# EAGLE library part ADG1534BCPZ-REEL7 (library ADG1534BCPZ-REEL7)
4.5 RON, 1.8 V Logic-Compatible Quad SPDT Switch Source: Datasheet <https://www.analog.com/ADG1534/datasheet>
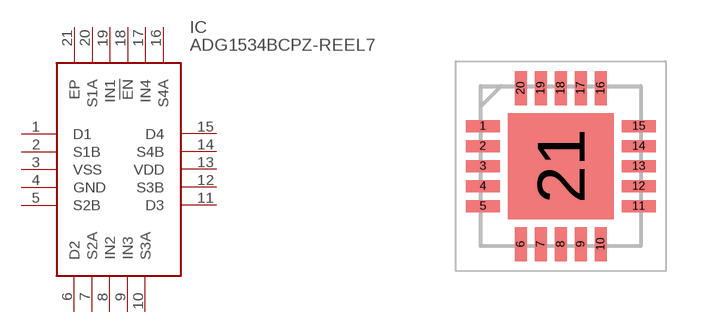
[diagram p0: symbol with the pads of QFN50P400X400X80-21N; footprint QFN50P400X400X80-21N]

Designator prefix IC

## ADG1534BCPZ-REEL7 (Description: 4.5 RON, 1.8 V Logic-Compatible Quad SPDT Switch; Height: 0.8mm; Manufacturer_Name: Analog Devices; Manufacturer_Part_Number: ADG1534BCPZ-REEL7; Mouser_Part_Number: 584-ADG1534BCPZREEL7; Mouser_Price-Stock: https://www.mouser.co.uk/ProductDetail/Analog-Devices/ADG1534BCPZ-REEL7?qs=ST9lo4GX8V0qjQZb0F%2FOag%3D%3D)  [QFN50P400X400X80-21N]
1  D1
2  S1B
3  VSS
4  GND
5  S2B
6  D2
7  S2A
8  IN2
9  IN3
10  S3A
11  D3
12  S3B
13  VDD
14  S4B
15  D4
16  S4A
17  IN4
18  !EN
19  IN1
20  S1A
21  EP

## Footprint QFN50P400X400X80-21N (pad centres in mm)
ADG1534BCPZ-REEL7
smd 0.85 x 0.3: 1 -1.95,1; 2 -1.95,0.5; 3 -1.95,0; 4 -1.95,-0.5; 5 -1.95,-1; 11 1.95,-1; 12 1.95,-0.5; 13 1.95,0; 14 1.95,0.5; 15 1.95,1
smd 0.3 x 0.85: 6 -1,-1.95; 7 -0.5,-1.95; 8 0,-1.95; 9 0.5,-1.95; 10 1,-1.95; 16 1,1.95; 17 0.5,1.95; 18 0,1.95; 19 -0.5,1.95; 20 -1,1.95
smd 2.65 x 2.65: 21 0,0